# EAGLE library part XTB_2018_07_15 (library maholli)
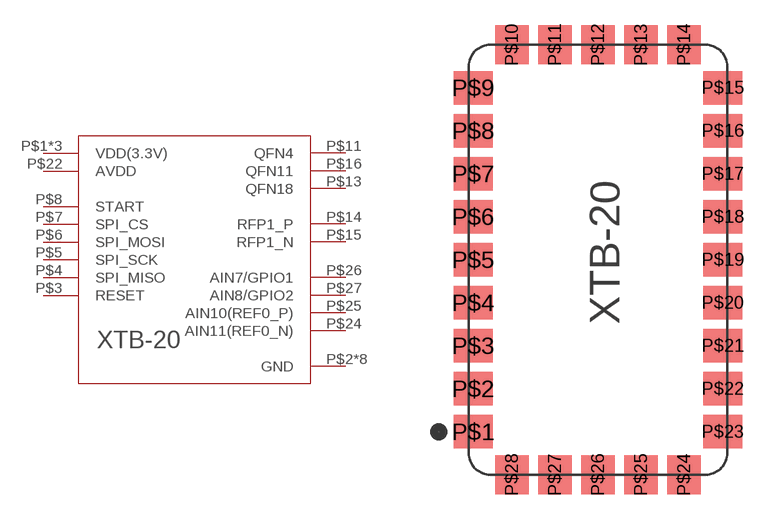
[diagram p24: symbol with the pads of XTB28_MEZ; footprint XTB28_MEZ]

Designator prefix U

## XTB_2018_07_15  [XTB28_MEZ]
P$1  VDD(3.3V)
P$2  GND
P$3  RESET
P$4  SPI_MISO
P$5  SPI_SCK
P$6  SPI_MOSI
P$7  SPI_CS
P$8  START
P$9  GND
P$10  GND
P$11  QFN4
P$12  GND
P$13  QFN18
P$14  RFP1_P
P$15  RFP1_N
P$16  QFN11
P$17  GND
P$19  GND
P$20  VDD(3.3V)
P$21  GND
P$22  AVDD
P$23  GND
P$24  AIN11(REF0_N)
P$25  AIN10(REF0_P)
P$26  AIN7/GPIO1
P$27  AIN8/GPIO2
P$28  VDD(3.3V)

## Footprint XTB28_MEZ (pad centres in mm)
smd 2.286 x 1.981: P$1 0.254,2.54; P$2 0.254,5.08; P$3 0.254,7.62; P$4 0.254,10.16; P$5 0.254,12.7; P$6 0.254,15.24; P$7 0.254,17.78; P$8 0.254,20.32; P$9 0.254,22.86; P$15 14.986,22.86; P$16 14.986,20.32; P$17 14.986,17.78; P$18 14.986,15.24; P$19 14.986,12.7; P$20 14.986,10.16; P$21 14.986,7.62; P$22 14.986,5.08; P$23 14.986,2.54
smd 1.981 x 2.286: P$10 2.54,25.4; P$11 5.08,25.4; P$12 7.62,25.4; P$13 10.16,25.4; P$14 12.7,25.4; P$24 12.7,0; P$25 10.16,0; P$26 7.62,0; P$27 5.08,0; P$28 2.54,0